# Altium schematic symbol library IR Discrete IGBT.SchLib: 141 symbols (part 2 of 3)
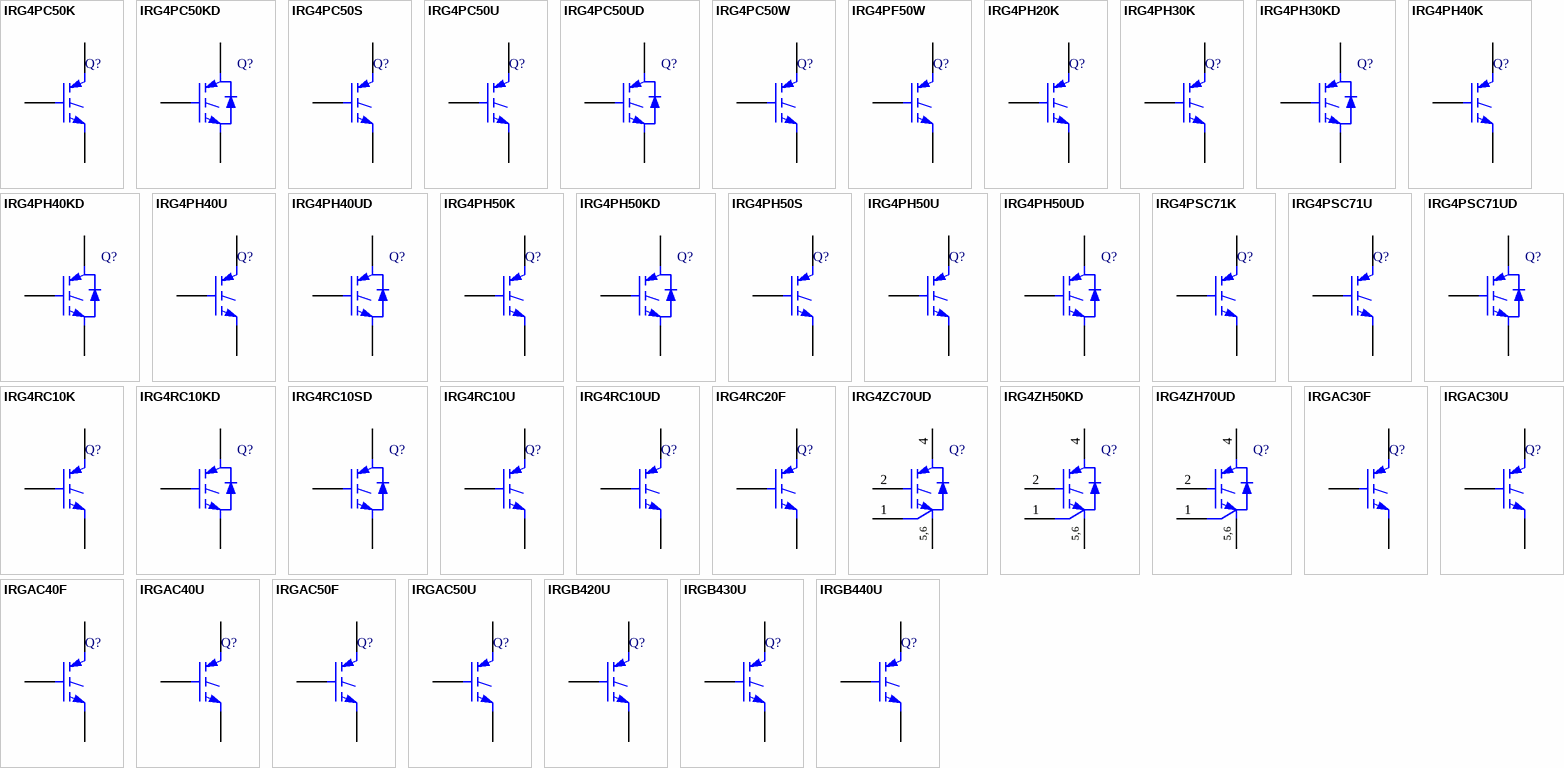
[diagram p4: symbols IRG4PC50K to IRGB440U]

## IRG4PC50S
designator Q?
Insulated Gate Bipolar Transistor; Note: Pin 2 (collector) is electrically connected to the BASE; Published: 8-Jun-2000; LatestRevisionDate: 17-Jul-2002; LatestRevisionNote: Re-released for DXP Platform.; DatasheetVersion: Mar-1997; PackageVersion: Aug-1997; PackageReference: TO-247AC; Publisher: Altium Limited; PackageDescription: SIP with Mounting Hole; 3 Leads; Body 20 x 15.6 x 5 mm (typ); Pitch 5.45 mm; Code_JEDEC: TO-247-AC; ComponentLink1Description: Manufacturer Link; ComponentLink1URL: http://www.irf.com/; ComponentLink2Description: Datasheet; ComponentLink2URL: http://www.irf.com/product-info/datasheets/data/irg4pc50s.pdf
footprint TO-247AC (SIP with Mounting Hole; 3 Leads; Body 20 x 15.6 x 5 mm (typ); Pitch 5.45 mm)
simulation model IRG4PC50S (SUBCKT)
pins: 1 G, 2 C, 3 E

## IRG4PC50U
designator Q?
Insulated Gate Bipolar Transistor; Published: 8-Jun-2000; LatestRevisionDate: 17-Jul-2002; LatestRevisionNote: Re-released for DXP Platform.; DatasheetVersion: Apr-1997; PackageVersion: Aug-1997; PackageReference: TO-247AC; Publisher: Altium Limited; PackageDescription: SIP with Mounting Hole; 3 Leads; Body 20 x 15.6 x 5 mm (typ); Pitch 5.45 mm; Code_JEDEC: TO-247-AC; ComponentLink1Description: Manufacturer Link; ComponentLink1URL: http://www.irf.com/; ComponentLink2Description: Datasheet; ComponentLink2URL: http://www.irf.com/product-info/datasheets/data/irg4pc50u.pdf
footprint TO-247AC (SIP with Mounting Hole; 3 Leads; Body 20 x 15.6 x 5 mm (typ); Pitch 5.45 mm)
simulation model IRG4PC50U (SUBCKT)
pins: 1 G, 2 C, 3 E

## IRG4PC50UD
designator Q?
Insulated Gate Bipolar Transistor with Ultrafast Soft Recovery Diode; Note: Pin 2 (collector) is electrically connected to the BASE; Published: 8-Jun-2000; LatestRevisionDate: 17-Jul-2002; LatestRevisionNote: Re-released for DXP Platform.; DatasheetVersion: Apr-1997; PackageVersion: Aug-1997; PackageReference: TO-247AC; Publisher: Altium Limited; PackageDescription: SIP with Mounting Hole; 3 Leads; Body 20 x 15.6 x 5 mm (typ); Pitch 5.45 mm; Code_JEDEC: TO-247-AC; ComponentLink1Description: Manufacturer Link; ComponentLink1URL: http://www.irf.com/; ComponentLink2Description: Datasheet; ComponentLink2URL: http://www.irf.com/product-info/datasheets/data/irg4pc50ud.pdf
footprint TO-247AC (SIP with Mounting Hole; 3 Leads; Body 20 x 15.6 x 5 mm (typ); Pitch 5.45 mm)
simulation model IRG4PC50UD (SUBCKT)
pins: 1 G, 2 C, 3 E

## IRG4PC50W
designator Q?
Insulated Gate Bipolar Transistor; Published: 8-Jun-2000; LatestRevisionDate: 17-Jul-2002; LatestRevisionNote: Re-released for DXP Platform.; DatasheetVersion: Aug-1997; PackageVersion: Aug-1997; PackageReference: TO-247AC; Publisher: Altium Limited; PackageDescription: SIP with Mounting Hole; 3 Leads; Body 20 x 15.6 x 5 mm (typ); Pitch 5.45 mm; Code_JEDEC: TO-247-AC; ComponentLink1Description: Manufacturer Link; ComponentLink1URL: http://www.irf.com/; ComponentLink2Description: Datasheet; ComponentLink2URL: http://www.irf.com/product-info/datasheets/data/irg4pc50w.pdf
footprint TO-247AC (SIP with Mounting Hole; 3 Leads; Body 20 x 15.6 x 5 mm (typ); Pitch 5.45 mm)
simulation model IRG4PC50W (SUBCKT)
pins: 1 G, 2 C, 3 E

## IRG4PF50W
designator Q?
Insulated Gate Bipolar Transistor; Note: Pin 4 is electrically connected to Pin 2; Published: 17-Sep-2003; DatasheetVersion: 15-Apr-1998; PackageVersion: Aug-1997; PackageReference: TO-247AC; Publisher: Altium Limited; PackageDescription: SIP with Mounting Hole; 3 Leads; Body 20 x 15.6 x 5 mm (typ); Pitch 5.45 mm; Code_JEDEC: TO-247-AC; ComponentLink1Description: Manufacturer Link; ComponentLink1URL: http://www.irf.com/; ComponentLink2Description: Datasheet; ComponentLink2URL: http://www.irf.com/product-info/datasheets/data/IRG4PF50W.pdf
footprint TO-247AC (SIP with Mounting Hole; 3 Leads; Body 20 x 15.6 x 5 mm (typ); Pitch 5.45 mm)
simulation model IRG4PF50W (SUBCKT)
pins: 1 G, 2 C, 3 E

## IRG4PH20K
designator Q?
Insulated Gate Bipolar Transistor; Note: Pin 4 is electrically connected to Pin 2; Published: 17-Sep-2003; DatasheetVersion: 25-Jun-1998; PackageVersion: Aug-1997; PackageReference: TO-247AC; Publisher: Altium Limited; PackageDescription: SIP with Mounting Hole; 3 Leads; Body 20 x 15.6 x 5 mm (typ); Pitch 5.45 mm; Code_JEDEC: TO-247-AC; ComponentLink1Description: Manufacturer Link; ComponentLink1URL: http://www.irf.com/; ComponentLink2Description: Datasheet; ComponentLink2URL: http://www.irf.com/product-info/datasheets/data/IRG4PH20K.pdf
footprint TO-247AC (SIP with Mounting Hole; 3 Leads; Body 20 x 15.6 x 5 mm (typ); Pitch 5.45 mm)
simulation model IRG4PH20K (SUBCKT)
pins: 1 G, 2 C, 3 E

## IRG4PH30K
designator Q?
Insulated Gate Bipolar Transistor; Published: 8-Jun-2000; LatestRevisionDate: 17-Jul-2002; LatestRevisionNote: Re-released for DXP Platform.; DatasheetVersion: Oct-1997; PackageVersion: Aug-1997; PackageReference: TO-247AC; Publisher: Altium Limited; PackageDescription: SIP with Mounting Hole; 3 Leads; Body 20 x 15.6 x 5 mm (typ); Pitch 5.45 mm; Code_JEDEC: TO-247-AC; ComponentLink1Description: Manufacturer Link; ComponentLink1URL: http://www.irf.com/; ComponentLink2Description: Datasheet; ComponentLink2URL: http://www.irf.com/product-info/datasheets/data/irg4ph30k.pdf
footprint TO-247AC (SIP with Mounting Hole; 3 Leads; Body 20 x 15.6 x 5 mm (typ); Pitch 5.45 mm)
pins: 1 G, 2 C, 3 E

## IRG4PH30KD
designator Q?
Insulated Gate Bipolar Transistor with Ultrafast Soft Recovery Diode; Published: 8-Jun-2000; LatestRevisionDate: 17-Jul-2002; LatestRevisionNote: Re-released for DXP Platform.; DatasheetVersion: Oct-1997; PackageVersion: Aug-1997; PackageReference: TO-247AC; Publisher: Altium Limited; PackageDescription: SIP with Mounting Hole; 3 Leads; Body 20 x 15.6 x 5 mm (typ); Pitch 5.45 mm; Code_JEDEC: TO-247-AC; ComponentLink1Description: Manufacturer Link; ComponentLink1URL: http://www.irf.com/; ComponentLink2Description: Datasheet; ComponentLink2URL: http://www.irf.com/product-info/datasheets/data/irg4ph30kd.pdf
footprint TO-247AC (SIP with Mounting Hole; 3 Leads; Body 20 x 15.6 x 5 mm (typ); Pitch 5.45 mm)
pins: 1 G, 2 C, 3 E

## IRG4PH40K
designator Q?
Insulated Gate Bipolar Transistor; Published: 8-Jun-2000; LatestRevisionDate: 17-Jul-2002; LatestRevisionNote: Re-released for DXP Platform.; DatasheetVersion: Sep-1997; PackageVersion: Aug-1997; PackageReference: TO-247AC; Publisher: Altium Limited; PackageDescription: SIP with Mounting Hole; 3 Leads; Body 20 x 15.6 x 5 mm (typ); Pitch 5.45 mm; Code_JEDEC: TO-247-AC; ComponentLink1Description: Manufacturer Link; ComponentLink1URL: http://www.irf.com/; ComponentLink2Description: Datasheet; ComponentLink2URL: http://www.irf.com/product-info/datasheets/data/irg4ph40k.pdf
footprint TO-247AC (SIP with Mounting Hole; 3 Leads; Body 20 x 15.6 x 5 mm (typ); Pitch 5.45 mm)
pins: 1 G, 2 C, 3 E

## IRG4PH40KD
designator Q?
Insulated Gate Bipolar Transistor with Ultrafast Soft Recovery Diode; Published: 8-Jun-2000; LatestRevisionDate: 17-Jul-2002; LatestRevisionNote: Re-released for DXP Platform.; DatasheetVersion: Sep-1997; PackageVersion: Aug-1997; PackageReference: TO-247AC; Publisher: Altium Limited; PackageDescription: SIP with Mounting Hole; 3 Leads; Body 20 x 15.6 x 5 mm (typ); Pitch 5.45 mm; Code_JEDEC: TO-247-AC; ComponentLink1Description: Manufacturer Link; ComponentLink1URL: http://www.irf.com/; ComponentLink2Description: Datasheet; ComponentLink2URL: http://www.irf.com/product-info/datasheets/data/irg4ph40kd.pdf
footprint TO-247AC (SIP with Mounting Hole; 3 Leads; Body 20 x 15.6 x 5 mm (typ); Pitch 5.45 mm)
pins: 1 G, 2 C, 3 E

## IRG4PH40U
designator Q?
Insulated Gate Bipolar Transistor; Published: 8-Jun-2000; LatestRevisionDate: 17-Jul-2002; LatestRevisionNote: Re-released for DXP Platform.; DatasheetVersion: Aug-1997; PackageVersion: Aug-1997; PackageReference: TO-247AC; Publisher: Altium Limited; PackageDescription: SIP with Mounting Hole; 3 Leads; Body 20 x 15.6 x 5 mm (typ); Pitch 5.45 mm; Code_JEDEC: TO-247-AC; ComponentLink1Description: Manufacturer Link; ComponentLink1URL: http://www.irf.com/; ComponentLink2Description: Datasheet; ComponentLink2URL: http://www.irf.com/product-info/datasheets/data/irg4ph40u.pdf
footprint TO-247AC (SIP with Mounting Hole; 3 Leads; Body 20 x 15.6 x 5 mm (typ); Pitch 5.45 mm)
pins: 1 G, 2 C, 3 E

## IRG4PH40UD
designator Q?
Insulated Gate Bipolar Transistor with Ultrafast Soft Recovery Diode; Note: Pin 2 (collector) is electrically connected to the BASE; Published: 8-Jun-2000; LatestRevisionDate: 17-Jul-2002; LatestRevisionNote: Re-released for DXP Platform.; DatasheetVersion: Aug-1997; PackageVersion: Aug-1997; PackageReference: TO-247AC; Publisher: Altium Limited; PackageDescription: SIP with Mounting Hole; 3 Leads; Body 20 x 15.6 x 5 mm (typ); Pitch 5.45 mm; Code_JEDEC: TO-247-AC; ComponentLink1Description: Manufacturer Link; ComponentLink1URL: http://www.irf.com/; ComponentLink2Description: Datasheet; ComponentLink2URL: http://www.irf.com/product-info/datasheets/data/irg4ph40ud.pdf
footprint TO-247AC (SIP with Mounting Hole; 3 Leads; Body 20 x 15.6 x 5 mm (typ); Pitch 5.45 mm)
pins: 1 G, 2 C, 3 E

## IRG4PH50K
designator Q?
Insulated Gate Bipolar Transistor; Published: 8-Jun-2000; LatestRevisionDate: 17-Jul-2002; LatestRevisionNote: Re-released for DXP Platform.; DatasheetVersion: PD-9.1576; PackageVersion: Aug-1997; PackageReference: TO-247AC; Publisher: Altium Limited; PackageDescription: SIP with Mounting Hole; 3 Leads; Body 20 x 15.6 x 5 mm (typ); Pitch 5.45 mm; Code_JEDEC: TO-247-AC; ComponentLink1Description: Manufacturer Link; ComponentLink1URL: http://www.irf.com/; ComponentLink2Description: Datasheet; ComponentLink2URL: http://www.irf.com/product-info/datasheets/data/irg4ph50k.pdf
footprint TO-247AC (SIP with Mounting Hole; 3 Leads; Body 20 x 15.6 x 5 mm (typ); Pitch 5.45 mm)
pins: 1 G, 2 C, 3 E

## IRG4PH50KD
designator Q?
Insulated Gate Bipolar Transistor with Ultrafast Soft Recovery Diode; Published: 8-Jun-2000; LatestRevisionDate: 17-Jul-2002; LatestRevisionNote: Re-released for DXP Platform.; DatasheetVersion: Apr-1998; PackageVersion: Aug-1997; PackageReference: TO-247AC; Publisher: Altium Limited; PackageDescription: SIP with Mounting Hole; 3 Leads; Body 20 x 15.6 x 5 mm (typ); Pitch 5.45 mm; Code_JEDEC: TO-247-AC; ComponentLink1Description: Manufacturer Link; ComponentLink1URL: http://www.irf.com/; ComponentLink2Description: Datasheet; ComponentLink2URL: http://www.irf.com/product-info/datasheets/data/irg4ph50kd.pdf
footprint TO-247AC (SIP with Mounting Hole; 3 Leads; Body 20 x 15.6 x 5 mm (typ); Pitch 5.45 mm)
pins: 1 G, 2 C, 3 E

## IRG4PH50S
designator Q?
Insulated Gate Bipolar Transistor; Note: Pin 2 (collector) is electrically connected to the BASE; Published: 8-Jun-2000; LatestRevisionDate: 17-Jul-2002; LatestRevisionNote: Re-released for DXP Platform.; DatasheetVersion: Dec-1997; PackageVersion: Aug-1997; PackageReference: TO-247AC; Publisher: Altium Limited; PackageDescription: SIP with Mounting Hole; 3 Leads; Body 20 x 15.6 x 5 mm (typ); Pitch 5.45 mm; Code_JEDEC: TO-247-AC; ComponentLink1Description: Manufacturer Link; ComponentLink1URL: http://www.irf.com/; ComponentLink2Description: Datasheet; ComponentLink2URL: http://www.irf.com/product-info/datasheets/data/irg4ph50s.pdf
footprint TO-247AC (SIP with Mounting Hole; 3 Leads; Body 20 x 15.6 x 5 mm (typ); Pitch 5.45 mm)
simulation model IRG4PH50S (SUBCKT)
pins: 1 G, 2 C, 3 E

## IRG4PH50U
designator Q?
Insulated Gate Bipolar Transistor; Published: 8-Jun-2000; LatestRevisionDate: 17-Jul-2002; LatestRevisionNote: Re-released for DXP Platform.; DatasheetVersion: Mar-1997; PackageVersion: Aug-1997; PackageReference: TO-247AC; Publisher: Altium Limited; PackageDescription: SIP with Mounting Hole; 3 Leads; Body 20 x 15.6 x 5 mm (typ); Pitch 5.45 mm; Code_JEDEC: TO-247-AC; ComponentLink1Description: Manufacturer Link; ComponentLink1URL: http://www.irf.com/; ComponentLink2Description: Datasheet; ComponentLink2URL: http://www.irf.com/product-info/datasheets/data/irg4ph50u.pdf
footprint TO-247AC (SIP with Mounting Hole; 3 Leads; Body 20 x 15.6 x 5 mm (typ); Pitch 5.45 mm)
simulation model IRG4PH50U (SUBCKT)
pins: 1 G, 2 C, 3 E

## IRG4PH50UD
designator Q?
Insulated Gate Bipolar Transistor with Ultrafast Soft Recovery Diode; Note: Pin 2 (collector) is electrically connected to the BASE; Published: 8-Jun-2000; LatestRevisionDate: 17-Jul-2002; LatestRevisionNote: Re-released for DXP Platform.; DatasheetVersion: Mar-1997; PackageVersion: Aug-1997; PackageReference: TO-247AC; Publisher: Altium Limited; PackageDescription: SIP with Mounting Hole; 3 Leads; Body 20 x 15.6 x 5 mm (typ); Pitch 5.45 mm; Code_JEDEC: TO-247-AC; ComponentLink1Description: Manufacturer Link; ComponentLink1URL: http://www.irf.com/; ComponentLink2Description: Datasheet; ComponentLink2URL: http://www.irf.com/product-info/datasheets/data/irg4ph50ud.pdf
footprint TO-247AC (SIP with Mounting Hole; 3 Leads; Body 20 x 15.6 x 5 mm (typ); Pitch 5.45 mm)
simulation model IRG4PH50UD (SUBCKT)
pins: 1 G, 2 C, 3 E

## IRG4PSC71K
designator Q?
Insulated Gate Bipolar Transistor; Published: 8-Jun-2000; LatestRevisionDate: 17-Jul-2002; LatestRevisionNote: Re-released for DXP Platform.; DatasheetVersion: May-1999; PackageReference: SUPER-247; Publisher: Altium Limited; PackageDescription: SIP; 3 Leads; Body 20.3 x 15.6 x 5 mm (typ); Pitch 5.45 mm; ComponentLink1Description: Manufacturer Link; ComponentLink1URL: http://www.irf.com/; ComponentLink2Description: Datasheet; ComponentLink2URL: http://www.irf.com/product-info/datasheets/data/irg4psc71k.pdf
footprint SUPER-247 (SIP; 3 Leads; Body 20.3 x 15.6 x 5 mm (typ); Pitch 5.45 mm)
simulation model IRG4PSC71K (SUBCKT)
pins: 1 G, 2 C, 3 E

## IRG4PSC71U
designator Q?
Insulated Gate Bipolar Transistor; Published: 8-Jun-2000; LatestRevisionDate: 17-Jul-2002; LatestRevisionNote: Re-released for DXP Platform.; DatasheetVersion: May-1999; PackageReference: SUPER-247; Publisher: Altium Limited; PackageDescription: SIP; 3 Leads; Body 20.3 x 15.6 x 5 mm (typ); Pitch 5.45 mm; ComponentLink1Description: Manufacturer Link; ComponentLink1URL: http://www.irf.com/; ComponentLink2Description: Datasheet; ComponentLink2URL: http://www.irf.com/product-info/datasheets/data/irg4psc71u.pdf
footprint SUPER-247 (SIP; 3 Leads; Body 20.3 x 15.6 x 5 mm (typ); Pitch 5.45 mm)
pins: 1 G, 2 C, 3 E

## IRG4PSC71UD
designator Q?
Insulated Gate Bipolar Transistor with Ultrafast Soft Recovery Diode; Published: 8-Jun-2000; LatestRevisionDate: 17-Jul-2002; LatestRevisionNote: Re-released for DXP Platform.; DatasheetVersion: May-1999; PackageReference: SUPER-247; Publisher: Altium Limited; PackageDescription: SIP; 3 Leads; Body 20.3 x 15.6 x 5 mm (typ); Pitch 5.45 mm; ComponentLink1Description: Manufacturer Link; ComponentLink1URL: http://www.irf.com/; ComponentLink2Description: Datasheet; ComponentLink2URL: http://www.irf.com/product-info/datasheets/data/irg4psc71ud.pdf
footprint SUPER-247 (SIP; 3 Leads; Body 20.3 x 15.6 x 5 mm (typ); Pitch 5.45 mm)
pins: 1 G, 2 C, 3 E

## IRG4RC10K
designator Q?
Insulated Gate Bipolar Transistor; Note: Pin 2 is trimmed and not drawn; Published: 17-Sep-2003; DatasheetVersion: 30-Dec-2000; PackageVersion: Feb-2003; PackageReference: TO-252AA; Publisher: Altium Limited; PackageDescription: D-PAK/TO-252-AA; 3 Leads (1 Cropped); Body 10.4 (inc. leads) x 6.7 mm (LxW max); Code_JEDEC: TO-252-AA; ComponentLink1Description: Manufacturer Link; ComponentLink1URL: http://www.irf.com/; ComponentLink2Description: Datasheet; ComponentLink2URL: http://www.irf.com/product-info/datasheets/data/irg4rc10k.pdf
footprint TO-252AA (D-PAK/TO-252-AA; 3 Leads (1 Cropped); Body 10.4 (inc. leads) x 6.7 mm (LxW max))
pins: 1 G, 3 E, 4 C

## IRG4RC10KD
designator Q?
Insulated Gate Bipolar Transistor with Ultrafast Soft Recovery Diode; Note: Pin 2 is trimmed and not drawn; Published: 17-Sep-2003; DatasheetVersion: 30-Dec-2000; PackageVersion: Feb-2003; PackageReference: TO-252AA; Publisher: Altium Limited; PackageDescription: D-PAK/TO-252-AA; 3 Leads (1 Cropped); Body 10.4 (inc. leads) x 6.7 mm (LxW max); Code_JEDEC: TO-252-AA; ComponentLink1Description: Manufacturer Link; ComponentLink1URL: http://www.irf.com/; ComponentLink2Description: Datasheet; ComponentLink2URL: http://www.irf.com/product-info/datasheets/data/irg4rc10kd.pdf
footprint TO-252AA (D-PAK/TO-252-AA; 3 Leads (1 Cropped); Body 10.4 (inc. leads) x 6.7 mm (LxW max))
pins: 1 G, 3 E, 4 C

## IRG4RC10SD
designator Q?
Insulated Gate Bipolar Transistor with Ultrafast Soft Recovery Diode; Note: Pin 2 is trimmed and not drawn; Published: 8-Jun-2000; LatestRevisionDate: 17-Jul-2002; LatestRevisionNote: Re-released for DXP Platform.; DatasheetVersion: Jul-1998; PackageVersion: Feb-2003; PackageReference: TO-252AA; Publisher: Altium Limited; PackageDescription: D-PAK/TO-252-AA; 3 Leads (1 Cropped); Body 10.4 (inc. leads) x 6.7 mm (LxW max); Code_JEDEC: TO-252-AA; ComponentLink1Description: Manufacturer Link; ComponentLink1URL: http://www.irf.com/; ComponentLink2Description: Datasheet; ComponentLink2URL: http://www.irf.com/product-info/datasheets/data/irg4rc10sd.pdf
footprint TO-252AA (D-PAK/TO-252-AA; 3 Leads (1 Cropped); Body 10.4 (inc. leads) x 6.7 mm (LxW max))
pins: 1 G, 3 E, 4 C

## IRG4RC10U
designator Q?
Insulated Gate Bipolar Transistor; Note: Pin 2 is trimmed and not drawn; Published: 8-Jun-2000; LatestRevisionDate: 17-Jul-2002; LatestRevisionNote: Re-released for DXP Platform.; DatasheetVersion: Aug-1999; PackageVersion: Feb-2003; PackageReference: TO-252AA; Publisher: Altium Limited; PackageDescription: D-PAK/TO-252-AA; 3 Leads (1 Cropped); Body 10.4 (inc. leads) x 6.7 mm (LxW max); Code_JEDEC: TO-252-AA; ComponentLink1Description: Manufacturer Link; ComponentLink1URL: http://www.irf.com/; ComponentLink2Description: Datasheet; ComponentLink2URL: http://www.irf.com/product-info/datasheets/data/irg4rc10u.pdf
footprint TO-252AA (D-PAK/TO-252-AA; 3 Leads (1 Cropped); Body 10.4 (inc. leads) x 6.7 mm (LxW max))
simulation model IRG4RC10U (SUBCKT)
pins: 1 G, 3 E, 4 C

## IRG4RC10UD
designator Q?
Insulated Gate Bipolar Transistor with Ultrafast Soft Recovery Diode; Note: Pin 2 is trimmed and not drawn; Published: 8-Jun-2000; LatestRevisionDate: 17-Jul-2002; LatestRevisionNote: Re-released for DXP Platform.; DatasheetVersion: Jun-1997; PackageVersion: Feb-2003; PackageReference: TO-252AA; Publisher: Altium Limited; PackageDescription: D-PAK/TO-252-AA; 3 Leads (1 Cropped); Body 10.4 (inc. leads) x 6.7 mm (LxW max); Code_JEDEC: TO-252-AA; ComponentLink1Description: Manufacturer Link; ComponentLink1URL: http://www.irf.com/; ComponentLink2Description: Datasheet; ComponentLink2URL: http://www.irf.com/product-info/datasheets/data/irg4rc10ud.pdf
footprint TO-252AA (D-PAK/TO-252-AA; 3 Leads (1 Cropped); Body 10.4 (inc. leads) x 6.7 mm (LxW max))
simulation model IRG4RC10UD (SUBCKT)
pins: 1 G, 3 E, 4 C

## IRG4RC20F
designator Q?
Insulated Gate Bipolar Transistor; Note: Pin 2 is trimmed and not drawn; Published: 17-Sep-2003; DatasheetVersion: 22-Feb-2001; PackageVersion: Feb-2003; PackageReference: TO-252AA; Publisher: Altium Limited; PackageDescription: D-PAK/TO-252-AA; 3 Leads (1 Cropped); Body 10.4 (inc. leads) x 6.7 mm (LxW max); Code_JEDEC: TO-252-AA; ComponentLink1Description: Manufacturer Link; ComponentLink1URL: http://www.irf.com/; ComponentLink2Description: Datasheet; ComponentLink2URL: http://www.irf.com/product-info/datasheets/data/IRG4RC20F.pdf
footprint TO-252AA (D-PAK/TO-252-AA; 3 Leads (1 Cropped); Body 10.4 (inc. leads) x 6.7 mm (LxW max))
pins: 1 G, 3 E, 4 C

## IRG4ZC70UD
designator Q?
Insulated Gate Bipolar Transistor with Ultrafast Soft Recovery Diode; Note: Pin 3 is not connected and not drawn; Published: 8-Jun-2000; LatestRevisionDate: 17-Jul-2002; LatestRevisionNote: Re-released for DXP Platform.; DatasheetVersion: Mar-1998; PackageVersion: Mar-1998; PackageReference: SMD-10; Publisher: Altium Limited; PackageDescription: SMD-10 Package; 6 Terminals; Body 29 x 14.2 x 4.27 mm (LxWxH); ComponentLink1Description: Manufacturer Link; ComponentLink1URL: http://www.irf.com/; ComponentLink2Description: Datasheet; ComponentLink2URL: http://www.irf.com/product-info/datasheets/data/irg4zc70ud.pdf
footprint SMD-10 (SMD-10 Package; 6 Terminals; Body 29 x 14.2 x 4.27 mm (LxWxH))
pins: 1 EK, 2 G, 4 C, 5 E, 6 E
text: 5,6

## IRG4ZH50KD
designator Q?
Insulated Gate Bipolar Transistor with Ultrafast Soft Recovery Diode; Note: Pin 3 is not connected and not drawn; Published: 8-Jun-2000; LatestRevisionDate: 17-Jul-2002; LatestRevisionNote: Re-released for DXP Platform.; DatasheetVersion: Mar-1998; PackageVersion: Mar-1998; PackageReference: SMD-10; Publisher: Altium Limited; PackageDescription: SMD-10 Package; 6 Terminals; Body 29 x 14.2 x 4.27 mm (LxWxH); ComponentLink1Description: Manufacturer Link; ComponentLink1URL: http://www.irf.com/; ComponentLink2Description: Datasheet; ComponentLink2URL: http://www.irf.com/product-info/datasheets/data/irg4zh50kd.pdf
footprint SMD-10 (SMD-10 Package; 6 Terminals; Body 29 x 14.2 x 4.27 mm (LxWxH))
pins: 1 EK, 2 G, 4 C, 5 E, 6 E
text: 5,6

## IRG4ZH70UD
designator Q?
Insulated Gate Bipolar Transistor with Ultrafast Soft Recovery Diode; Note: Pin 3 is not connected and not drawn; Published: 8-Jun-2000; LatestRevisionDate: 17-Jul-2002; LatestRevisionNote: Re-released for DXP Platform.; DatasheetVersion: Mar-1998; PackageVersion: Mar-1998; PackageReference: SMD-10; Publisher: Altium Limited; PackageDescription: SMD-10 Package; 6 Terminals; Body 29 x 14.2 x 4.27 mm (LxWxH); ComponentLink1Description: Manufacturer Link; ComponentLink1URL: http://www.irf.com/; ComponentLink2Description: Datasheet; ComponentLink2URL: http://www.irf.com/product-info/datasheets/data/irg4zh70ud.pdf
footprint SMD-10 (SMD-10 Package; 6 Terminals; Body 29 x 14.2 x 4.27 mm (LxWxH))
simulation model IRG4ZH70UD (SUBCKT)
pins: 1 EK, 2 G, 4 C, 5 E, 6 E
text: 5,6

## IRGAC30F
designator Q?
Insulated Gate Bipolar Transistor; Note: Terminal 3 (collector) is the CASE; Published: 8-Jun-2000; LatestRevisionDate: 17-Sep-2003; LatestRevisionNote: SIM Port Mapping Fixed.; DatasheetVersion: PD-9.721A; PackageReference: TO-204AE; Publisher: Altium Limited; PackageDescription: Oval Flange Mount with (2) Offset Leads; Pin Spacing 10.92 mm; Lead Dia. 1.57 mm (max); ComponentLink1Description: Manufacturer Link; ComponentLink1URL: http://www.irf.com/; ComponentLink2Description: Datasheet; ComponentLink2URL: http://www.irf.com/product-info/datasheets/data/IRGAC30F_C.pdf
footprint TO-204AE (Oval Flange Mount with (2) Offset Leads; Pin Spacing 10.92 mm; Lead Dia. 1.57 mm (max))
simulation model IRGAC30F (SUBCKT)
pins: 1 E, 2 G, 3 C

## IRGAC30U
designator Q?
Insulated Gate Bipolar Transistor; Note: Terminal 3 (collector) is the CASE; Published: 8-Jun-2000; LatestRevisionDate: 17-Sep-2003; LatestRevisionNote: SIM Port Mapping Fixed.; DatasheetVersion: PD-9.722A; PackageReference: TO-204AE; Publisher: Altium Limited; PackageDescription: Oval Flange Mount with (2) Offset Leads; Pin Spacing 10.92 mm; Lead Dia. 1.57 mm (max); ComponentLink1Description: Manufacturer Link; ComponentLink1URL: http://www.irf.com/; ComponentLink2Description: Datasheet; ComponentLink2URL: http://www.irf.com/product-info/datasheets/data/IRGAC30U_C.pdf
footprint TO-204AE (Oval Flange Mount with (2) Offset Leads; Pin Spacing 10.92 mm; Lead Dia. 1.57 mm (max))
simulation model IRGAC30U (SUBCKT)
pins: 1 E, 2 G, 3 C

## IRGAC40F
designator Q?
Insulated Gate Bipolar Transistor; Note: Terminal 3 (collector) is the CASE; Published: 8-Jun-2000; LatestRevisionDate: 17-Sep-2003; LatestRevisionNote: SIM Port Mapping Fixed.; DatasheetVersion: PD-9.723A; PackageReference: TO-204AE; Publisher: Altium Limited; PackageDescription: Oval Flange Mount with (2) Offset Leads; Pin Spacing 10.92 mm; Lead Dia. 1.57 mm (max); ComponentLink1Description: Manufacturer Link; ComponentLink1URL: http://www.irf.com/; ComponentLink2Description: Datasheet; ComponentLink2URL: http://www.irf.com/product-info/datasheets/data/IRGAC40F_C.pdf
footprint TO-204AE (Oval Flange Mount with (2) Offset Leads; Pin Spacing 10.92 mm; Lead Dia. 1.57 mm (max))
simulation model IRGAC40F (SUBCKT)
pins: 1 E, 2 G, 3 C

## IRGAC40U
designator Q?
Insulated Gate Bipolar Transistor; Note: Terminal 3 (collector) is the CASE; Published: 8-Jun-2000; LatestRevisionDate: 17-Sep-2003; LatestRevisionNote: SIM Port Mapping Fixed.; DatasheetVersion: PD-9.724A; PackageReference: TO-204AE; Publisher: Altium Limited; PackageDescription: Oval Flange Mount with (2) Offset Leads; Pin Spacing 10.92 mm; Lead Dia. 1.57 mm (max); ComponentLink1Description: Manufacturer Link; ComponentLink1URL: http://www.irf.com/; ComponentLink2Description: Datasheet; ComponentLink2URL: http://www.irf.com/product-info/datasheets/data/IRGAC40U_C.pdf
footprint TO-204AE (Oval Flange Mount with (2) Offset Leads; Pin Spacing 10.92 mm; Lead Dia. 1.57 mm (max))
simulation model IRGAC40U (SUBCKT)
pins: 1 E, 2 G, 3 C

## IRGAC50F
designator Q?
Insulated Gate Bipolar Transistor; Note: Terminal 3 (collector) is the CASE; Published: 8-Jun-2000; LatestRevisionDate: 17-Sep-2003; LatestRevisionNote: SIM Port Mapping Fixed.; DatasheetVersion: PD-9.725A; PackageReference: TO-204AE; Publisher: Altium Limited; PackageDescription: Oval Flange Mount with (2) Offset Leads; Pin Spacing 10.92 mm; Lead Dia. 1.57 mm (max); ComponentLink1Description: Manufacturer Link; ComponentLink1URL: http://www.irf.com/; ComponentLink2Description: Datasheet; ComponentLink2URL: http://www.irf.com/product-info/datasheets/data/IRGAC50F_C.pdf
footprint TO-204AE (Oval Flange Mount with (2) Offset Leads; Pin Spacing 10.92 mm; Lead Dia. 1.57 mm (max))
simulation model IRGAC50F (SUBCKT)
pins: 1 E, 2 G, 3 C

## IRGAC50U
designator Q?
Insulated Gate Bipolar Transistor; Note: Terminal 3 (collector) is the CASE; Published: 8-Jun-2000; LatestRevisionDate: 17-Sep-2003; LatestRevisionNote: SIM Port Mapping Fixed.; DatasheetVersion: PD-9.726A; PackageReference: TO-204AE; Publisher: Altium Limited; PackageDescription: Oval Flange Mount with (2) Offset Leads; Pin Spacing 10.92 mm; Lead Dia. 1.57 mm (max); ComponentLink1Description: Manufacturer Link; ComponentLink1URL: http://www.irf.com/; ComponentLink2Description: Datasheet; ComponentLink2URL: http://www.irf.com/product-info/datasheets/data/IRGAC50U_C.pdf
footprint TO-204AE (Oval Flange Mount with (2) Offset Leads; Pin Spacing 10.92 mm; Lead Dia. 1.57 mm (max))
simulation model IRGAC50U (SUBCKT)
pins: 1 E, 2 G, 3 C

## IRGB420U
designator Q?
Insulated Gate Bipolar Transistor; Note: Pin 2 (collector) is electrically connected to the TAB; Published: 8-Jun-2000; LatestRevisionDate: 17-Sep-2003; LatestRevisionNote: SIM Port Mapping Fixed.; DatasheetVersion: PD-9.784A; PackageVersion: Feb-1997; PackageReference: TO-220AB; Publisher: Altium Limited; PackageDescription: TO, Thru-Hole, Vertical, Heatsink Mounted; 3 In-Line Leads; Pitch 2.54 mm; ComponentLink1Description: Manufacturer Link; ComponentLink1URL: http://www.irf.com/
footprint TO-220AB (TO, Thru-Hole, Vertical, Heatsink Mounted; 3 In-Line Leads; Pitch 2.54 mm)
simulation model IRGB420U (SUBCKT)
pins: 1 G, 2 C, 3 E

## IRGB430U
designator Q?
Insulated Gate Bipolar Transistor; Note: Pin 2 (collector) is electrically connected to the TAB; Published: 8-Jun-2000; LatestRevisionDate: 17-Sep-2003; LatestRevisionNote: SIM Port Mapping Fixed.; DatasheetVersion: PD-9.783A; PackageVersion: Feb-1997; PackageReference: TO-220AB; Publisher: Altium Limited; PackageDescription: TO, Thru-Hole, Vertical, Heatsink Mounted; 3 In-Line Leads; Pitch 2.54 mm; ComponentLink1Description: Manufacturer Link; ComponentLink1URL: http://www.irf.com/
footprint TO-220AB (TO, Thru-Hole, Vertical, Heatsink Mounted; 3 In-Line Leads; Pitch 2.54 mm)
simulation model IRGB430U (SUBCKT)
pins: 1 G, 2 C, 3 E

## IRGB440U
designator Q?
Insulated Gate Bipolar Transistor; Note: Pin 2 (collector) is electrically connected to the TAB; Published: 8-Jun-2000; LatestRevisionDate: 17-Sep-2003; LatestRevisionNote: SIM Port Mapping Fixed.; DatasheetVersion: PD-9.782A; PackageVersion: Feb-1997; PackageReference: TO-220AB; Publisher: Altium Limited; PackageDescription: TO, Thru-Hole, Vertical, Heatsink Mounted; 3 In-Line Leads; Pitch 2.54 mm; ComponentLink1Description: Manufacturer Link; ComponentLink1URL: http://www.irf.com/
footprint TO-220AB (TO, Thru-Hole, Vertical, Heatsink Mounted; 3 In-Line Leads; Pitch 2.54 mm)
simulation model IRGB440U (SUBCKT)
pins: 1 G, 2 C, 3 E

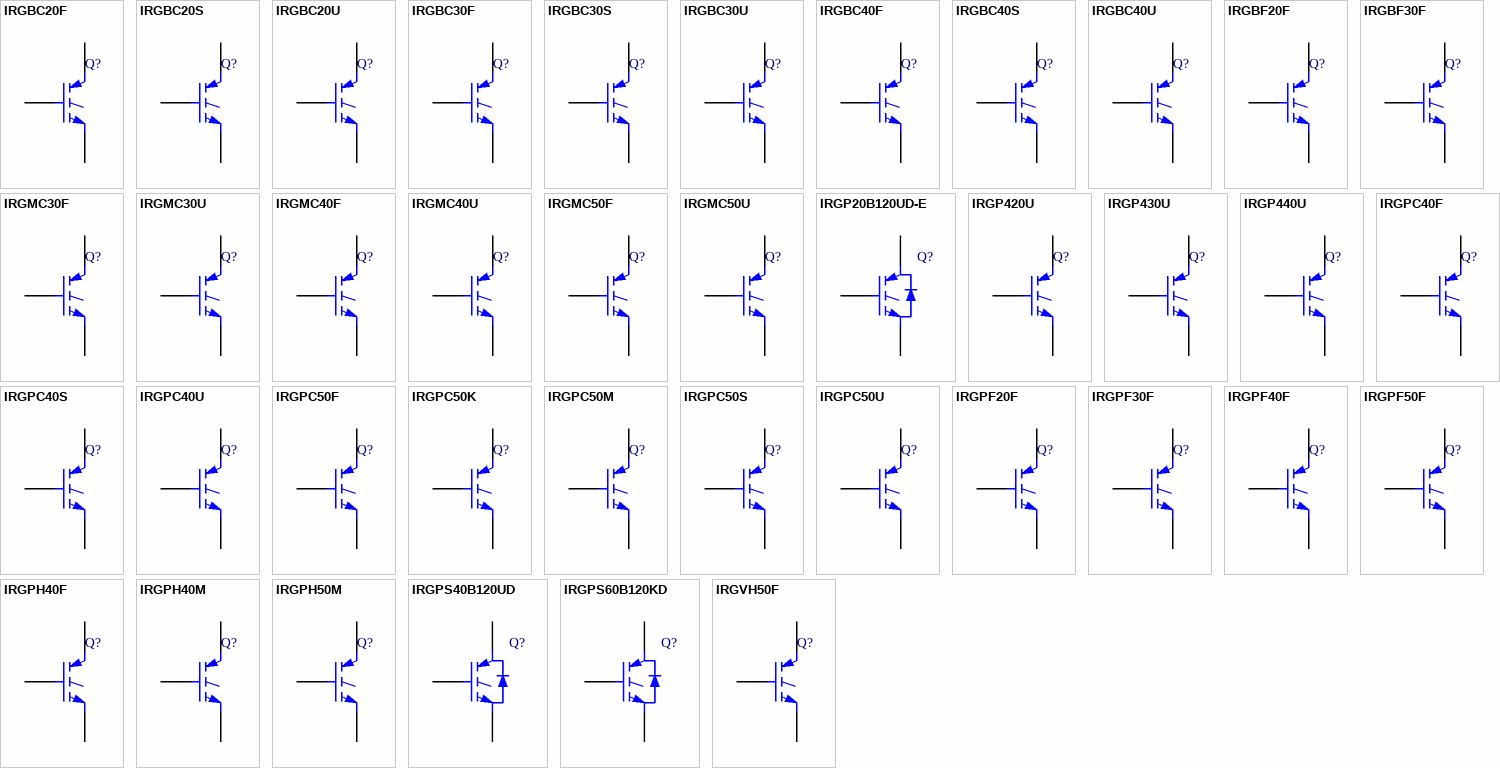
[diagram p3: symbols IRGBC20F to IRGVH50F]

## IRGBC20F
designator Q?
Insulated Gate Bipolar Transistor; Note: Pin 2 (collector) is electrically connected to the TAB; Published: 8-Jun-2000; LatestRevisionDate: 17-Sep-2003; LatestRevisionNote: SIM Port Mapping Fixed.; DatasheetVersion: PD-9.686A; PackageVersion: Feb-1997; PackageReference: TO-220AB; Publisher: Altium Limited; PackageDescription: TO, Thru-Hole, Vertical, Heatsink Mounted; 3 In-Line Leads; Pitch 2.54 mm; ComponentLink1Description: Manufacturer Link; ComponentLink1URL: http://www.irf.com/
footprint TO-220AB (TO, Thru-Hole, Vertical, Heatsink Mounted; 3 In-Line Leads; Pitch 2.54 mm)
simulation model IRGBC20F (SUBCKT)
pins: 1 G, 2 C, 3 E

## IRGBC20S
designator Q?
Insulated Gate Bipolar Transistor; Note: Pin 2 (collector) is electrically connected to the TAB; Published: 8-Jun-2000; LatestRevisionDate: 17-Sep-2003; LatestRevisionNote: SIM Port Mapping Fixed.; DatasheetVersion: PD-9.687A; PackageVersion: Feb-1997; PackageReference: TO-220AB; Publisher: Altium Limited; PackageDescription: TO, Thru-Hole, Vertical, Heatsink Mounted; 3 In-Line Leads; Pitch 2.54 mm; ComponentLink1Description: Manufacturer Link; ComponentLink1URL: http://www.irf.com/
footprint TO-220AB (TO, Thru-Hole, Vertical, Heatsink Mounted; 3 In-Line Leads; Pitch 2.54 mm)
simulation model IRGBC20S (SUBCKT)
pins: 1 G, 2 C, 3 E

## IRGBC20U
designator Q?
Insulated Gate Bipolar Transistor; Note: Pin 2 (collector) is electrically connected to the TAB; Published: 8-Jun-2000; LatestRevisionDate: 17-Sep-2003; LatestRevisionNote: SIM Port Mapping Fixed.; DatasheetVersion: PD-9.681A; PackageVersion: Feb-1997; PackageReference: TO-220AB; Publisher: Altium Limited; PackageDescription: TO, Thru-Hole, Vertical, Heatsink Mounted; 3 In-Line Leads; Pitch 2.54 mm; ComponentLink1Description: Manufacturer Link; ComponentLink1URL: http://www.irf.com/
footprint TO-220AB (TO, Thru-Hole, Vertical, Heatsink Mounted; 3 In-Line Leads; Pitch 2.54 mm)
simulation model IRGBC20U (SUBCKT)
pins: 1 G, 2 C, 3 E

## IRGBC30F
designator Q?
Insulated Gate Bipolar Transistor; Note: Pin 2 (collector) is electrically connected to the TAB; Published: 8-Jun-2000; LatestRevisionDate: 17-Sep-2003; LatestRevisionNote: SIM Port Mapping Fixed.; DatasheetVersion: PD-9.689A; PackageVersion: Feb-1997; PackageReference: TO-220AB; Publisher: Altium Limited; PackageDescription: TO, Thru-Hole, Vertical, Heatsink Mounted; 3 In-Line Leads; Pitch 2.54 mm; ComponentLink1Description: Manufacturer Link; ComponentLink1URL: http://www.irf.com/
footprint TO-220AB (TO, Thru-Hole, Vertical, Heatsink Mounted; 3 In-Line Leads; Pitch 2.54 mm)
simulation model IRGBC30F (SUBCKT)
pins: 1 G, 2 C, 3 E

## IRGBC30S
designator Q?
Insulated Gate Bipolar Transistor; Note: Pin 2 (collector) is electrically connected to the TAB; Published: 8-Jun-2000; LatestRevisionDate: 17-Sep-2003; LatestRevisionNote: SIM Port Mapping Fixed.; DatasheetVersion: PD-9.688A; PackageVersion: Feb-1997; PackageReference: TO-220AB; Publisher: Altium Limited; PackageDescription: TO, Thru-Hole, Vertical, Heatsink Mounted; 3 In-Line Leads; Pitch 2.54 mm; ComponentLink1Description: Manufacturer Link; ComponentLink1URL: http://www.irf.com/
footprint TO-220AB (TO, Thru-Hole, Vertical, Heatsink Mounted; 3 In-Line Leads; Pitch 2.54 mm)
simulation model IRGBC30S (SUBCKT)
pins: 1 G, 2 C, 3 E

## IRGBC30U
designator Q?
Insulated Gate Bipolar Transistor; Note: Pin 2 (collector) is electrically connected to the TAB; Published: 8-Jun-2000; LatestRevisionDate: 17-Sep-2003; LatestRevisionNote: SIM Port Mapping Fixed.; DatasheetVersion: PD-9.682A; PackageVersion: Feb-1997; PackageReference: TO-220AB; Publisher: Altium Limited; PackageDescription: TO, Thru-Hole, Vertical, Heatsink Mounted; 3 In-Line Leads; Pitch 2.54 mm; ComponentLink1Description: Manufacturer Link; ComponentLink1URL: http://www.irf.com/
footprint TO-220AB (TO, Thru-Hole, Vertical, Heatsink Mounted; 3 In-Line Leads; Pitch 2.54 mm)
simulation model IRGBC30U (SUBCKT)
pins: 1 G, 2 C, 3 E

## IRGBC40F
designator Q?
Insulated Gate Bipolar Transistor; Note: Pin 2 (collector) is electrically connected to the TAB; Published: 8-Jun-2000; LatestRevisionDate: 17-Sep-2003; LatestRevisionNote: SIM Port Mapping Fixed.; DatasheetVersion: PD-9.691A; PackageVersion: Feb-1997; PackageReference: TO-220AB; Publisher: Altium Limited; PackageDescription: TO, Thru-Hole, Vertical, Heatsink Mounted; 3 In-Line Leads; Pitch 2.54 mm; ComponentLink1Description: Manufacturer Link; ComponentLink1URL: http://www.irf.com/
footprint TO-220AB (TO, Thru-Hole, Vertical, Heatsink Mounted; 3 In-Line Leads; Pitch 2.54 mm)
simulation model IRGBC40F (SUBCKT)
pins: 1 G, 2 C, 3 E

## IRGBC40S
designator Q?
Insulated Gate Bipolar Transistor; Note: Pin 2 (collector) is electrically connected to the TAB; Published: 8-Jun-2000; LatestRevisionDate: 17-Sep-2003; LatestRevisionNote: SIM Port Mapping Fixed.; DatasheetVersion: PD-9.690A; PackageVersion: Feb-1997; PackageReference: TO-220AB; Publisher: Altium Limited; PackageDescription: TO, Thru-Hole, Vertical, Heatsink Mounted; 3 In-Line Leads; Pitch 2.54 mm; ComponentLink1Description: Manufacturer Link; ComponentLink1URL: http://www.irf.com/
footprint TO-220AB (TO, Thru-Hole, Vertical, Heatsink Mounted; 3 In-Line Leads; Pitch 2.54 mm)
simulation model IRGBC40S (SUBCKT)
pins: 1 G, 2 C, 3 E

## IRGBC40U
designator Q?
Insulated Gate Bipolar Transistor; Note: Pin 2 (collector) is electrically connected to the TAB; Published: 8-Jun-2000; LatestRevisionDate: 17-Sep-2003; LatestRevisionNote: SIM Port Mapping Fixed.; DatasheetVersion: PD-9.683A; PackageVersion: Feb-1997; PackageReference: TO-220AB; Publisher: Altium Limited; PackageDescription: TO, Thru-Hole, Vertical, Heatsink Mounted; 3 In-Line Leads; Pitch 2.54 mm; ComponentLink1Description: Manufacturer Link; ComponentLink1URL: http://www.irf.com/
footprint TO-220AB (TO, Thru-Hole, Vertical, Heatsink Mounted; 3 In-Line Leads; Pitch 2.54 mm)
simulation model IRGBC40U (SUBCKT)
pins: 1 G, 2 C, 3 E

## IRGBF20F
designator Q?
Insulated Gate Bipolar Transistor; Note: Pin 2 (collector) is electrically connected to the TAB; Published: 8-Jun-2000; LatestRevisionDate: 17-Sep-2003; LatestRevisionNote: SIM Port Mapping Fixed.; DatasheetVersion: PD-9.776A; PackageVersion: Feb-1997; PackageReference: TO-220AB; Publisher: Altium Limited; PackageDescription: TO, Thru-Hole, Vertical, Heatsink Mounted; 3 In-Line Leads; Pitch 2.54 mm; ComponentLink1Description: Manufacturer Link; ComponentLink1URL: http://www.irf.com/
footprint TO-220AB (TO, Thru-Hole, Vertical, Heatsink Mounted; 3 In-Line Leads; Pitch 2.54 mm)
simulation model IRGBF20F (SUBCKT)
pins: 1 G, 2 C, 3 E

## IRGBF30F
designator Q?
Insulated Gate Bipolar Transistor; Note: Pin 2 (collector) is electrically connected to the TAB; Published: 8-Jun-2000; LatestRevisionDate: 17-Sep-2003; LatestRevisionNote: SIM Port Mapping Fixed.; DatasheetVersion: PD-9.773; PackageVersion: Feb-1997; PackageReference: TO-220AB; Publisher: Altium Limited; PackageDescription: TO, Thru-Hole, Vertical, Heatsink Mounted; 3 In-Line Leads; Pitch 2.54 mm; ComponentLink1Description: Manufacturer Link; ComponentLink1URL: http://www.irf.com/
footprint TO-220AB (TO, Thru-Hole, Vertical, Heatsink Mounted; 3 In-Line Leads; Pitch 2.54 mm)
simulation model IRGBF30F (SUBCKT)
pins: 1 G, 2 C, 3 E

## IRGMC30F
designator Q?
Insulated Gate Bipolar Transistor; Published: 8-Jun-2000; LatestRevisionDate: 17-Jul-2002; LatestRevisionNote: Re-released for DXP Platform.; DatasheetVersion: PD-9.714A; PackageReference: TO-254AA; Publisher: Altium Limited; PackageDescription: TO, Thru-Hole, Vertical, Heatsink Mounted; 3 In-Line Leads; Pitch 3.81 mm; Code_JEDEC: TO-254-AA; ComponentLink1Description: Manufacturer Link; ComponentLink1URL: http://www.irf.com/; ComponentLink2Description: Datasheet; ComponentLink2URL: http://www.irf.com/product-info/datasheets/data/irgmc30f.pdf
footprint TO-254AA (TO, Thru-Hole, Vertical, Heatsink Mounted; 3 In-Line Leads; Pitch 3.81 mm)
simulation model IRGMC30F (SUBCKT)
pins: 1 C, 2 E, 3 G

## IRGMC30U
designator Q?
Insulated Gate Bipolar Transistor; Published: 8-Jun-2000; LatestRevisionDate: 17-Jul-2002; LatestRevisionNote: Re-released for DXP Platform.; DatasheetVersion: PD-9.715A; PackageReference: TO-254AA; Publisher: Altium Limited; PackageDescription: TO, Thru-Hole, Vertical, Heatsink Mounted; 3 In-Line Leads; Pitch 3.81 mm; Code_JEDEC: TO-254-AA; ComponentLink1Description: Manufacturer Link; ComponentLink1URL: http://www.irf.com/; ComponentLink2Description: Datasheet; ComponentLink2URL: http://www.irf.com/product-info/datasheets/data/irgmc30u.pdf
footprint TO-254AA (TO, Thru-Hole, Vertical, Heatsink Mounted; 3 In-Line Leads; Pitch 3.81 mm)
simulation model IRGMC30U (SUBCKT)
pins: 1 C, 2 E, 3 G

## IRGMC40F
designator Q?
Insulated Gate Bipolar Transistor; Published: 8-Jun-2000; LatestRevisionDate: 17-Jul-2002; LatestRevisionNote: Re-released for DXP Platform.; DatasheetVersion: PD-9.716A; PackageReference: TO-254AA; Publisher: Altium Limited; PackageDescription: TO, Thru-Hole, Vertical, Heatsink Mounted; 3 In-Line Leads; Pitch 3.81 mm; Code_JEDEC: TO-254-AA; ComponentLink1Description: Manufacturer Link; ComponentLink1URL: http://www.irf.com/; ComponentLink2Description: Datasheet; ComponentLink2URL: http://www.irf.com/product-info/datasheets/data/irgmc40f.pdf
footprint TO-254AA (TO, Thru-Hole, Vertical, Heatsink Mounted; 3 In-Line Leads; Pitch 3.81 mm)
simulation model IRGMC40F (SUBCKT)
pins: 1 C, 2 E, 3 G

## IRGMC40U
designator Q?
Insulated Gate Bipolar Transistor; Published: 8-Jun-2000; LatestRevisionDate: 17-Jul-2002; LatestRevisionNote: Re-released for DXP Platform.; DatasheetVersion: PD-9.717A; PackageReference: TO-254AA; Publisher: Altium Limited; PackageDescription: TO, Thru-Hole, Vertical, Heatsink Mounted; 3 In-Line Leads; Pitch 3.81 mm; Code_JEDEC: TO-254-AA; ComponentLink1Description: Manufacturer Link; ComponentLink1URL: http://www.irf.com/; ComponentLink2Description: Datasheet; ComponentLink2URL: http://www.irf.com/product-info/datasheets/data/irgmc40u.pdf
footprint TO-254AA (TO, Thru-Hole, Vertical, Heatsink Mounted; 3 In-Line Leads; Pitch 3.81 mm)
simulation model IRGMC40U (SUBCKT)
pins: 1 C, 2 E, 3 G

## IRGMC50F
designator Q?
Insulated Gate Bipolar Transistor; Published: 8-Jun-2000; LatestRevisionDate: 17-Jul-2002; LatestRevisionNote: Re-released for DXP Platform.; DatasheetVersion: PD-9.718A; PackageReference: TO-254AA; Publisher: Altium Limited; PackageDescription: TO, Thru-Hole, Vertical, Heatsink Mounted; 3 In-Line Leads; Pitch 3.81 mm; Code_JEDEC: TO-254-AA; ComponentLink1Description: Manufacturer Link; ComponentLink1URL: http://www.irf.com/; ComponentLink2Description: Datasheet; ComponentLink2URL: http://www.irf.com/product-info/datasheets/data/irgmc50f.pdf
footprint TO-254AA (TO, Thru-Hole, Vertical, Heatsink Mounted; 3 In-Line Leads; Pitch 3.81 mm)
simulation model IRGMC50F (SUBCKT)
pins: 1 C, 2 E, 3 G

## IRGMC50U
designator Q?
Insulated Gate Bipolar Transistor; Published: 8-Jun-2000; LatestRevisionDate: 17-Jul-2002; LatestRevisionNote: Re-released for DXP Platform.; DatasheetVersion: PD-9.719A; PackageReference: TO-254AA; Publisher: Altium Limited; PackageDescription: TO, Thru-Hole, Vertical, Heatsink Mounted; 3 In-Line Leads; Pitch 3.81 mm; Code_JEDEC: TO-254-AA; ComponentLink1Description: Manufacturer Link; ComponentLink1URL: http://www.irf.com/; ComponentLink2Description: Datasheet; ComponentLink2URL: http://www.irf.com/product-info/datasheets/data/irgmc50u.pdf
footprint TO-254AA (TO, Thru-Hole, Vertical, Heatsink Mounted; 3 In-Line Leads; Pitch 3.81 mm)
simulation model IRGMC50U (SUBCKT)
pins: 1 C, 2 E, 3 G

## IRGP20B120UD-E
designator Q?
Insulated Gate Bipolar Transistor with Ultrafast Soft Recovery Diode; Note: Pin 4 is electrically connected to Pin 2; Published: 17-Sep-2003; DatasheetVersion: 14-Dec-1999; PackageVersion: Dec-1999; PackageReference: TO-247AD; Publisher: Altium Limited; PackageDescription: SIP with Mounting Hole; 3 Leads; Pitch 5.5 mm; ComponentLink1Description: Manufacturer Link; ComponentLink1URL: http://www.irf.com/; ComponentLink2Description: Datasheet; ComponentLink2URL: http://www.irf.com/product-info/datasheets/data/IRGP20B120UD-E.pdf
footprint TO-247AD (SIP with Mounting Hole; 3 Leads; Pitch 5.5 mm)
simulation model IRGP20B120UD-E (SUBCKT)
pins: 1 G, 2 C, 3 E

## IRGP420U
designator Q?
Insulated Gate Bipolar Transistor; Note: Pin 2 (collector) is electrically connected to the BASE; Published: 8-Jun-2000; LatestRevisionDate: 17-Sep-2003; LatestRevisionNote: SIM Port Mapping Fixed.; DatasheetVersion: PD-9.781A; PackageVersion: Aug-1997; PackageReference: TO-247AC; Publisher: Altium Limited; PackageDescription: SIP with Mounting Hole; 3 Leads; Body 20 x 15.6 x 5 mm (typ); Pitch 5.45 mm; Code_JEDEC: TO-247-AC; ComponentLink1Description: Manufacturer Link; ComponentLink1URL: http://www.irf.com/
footprint TO-247AC (SIP with Mounting Hole; 3 Leads; Body 20 x 15.6 x 5 mm (typ); Pitch 5.45 mm)
simulation model IRGP420U (SUBCKT)
pins: 1 G, 2 C, 3 E

## IRGP430U
designator Q?
Insulated Gate Bipolar Transistor; Note: Pin 2 (collector) is electrically connected to the BASE; Published: 8-Jun-2000; LatestRevisionDate: 17-Sep-2003; LatestRevisionNote: SIM Port Mapping Fixed.; DatasheetVersion: PD-9.780A; PackageVersion: Aug-1997; PackageReference: TO-247AC; Publisher: Altium Limited; PackageDescription: SIP with Mounting Hole; 3 Leads; Body 20 x 15.6 x 5 mm (typ); Pitch 5.45 mm; Code_JEDEC: TO-247-AC; ComponentLink1Description: Manufacturer Link; ComponentLink1URL: http://www.irf.com/
footprint TO-247AC (SIP with Mounting Hole; 3 Leads; Body 20 x 15.6 x 5 mm (typ); Pitch 5.45 mm)
simulation model IRGP430U (SUBCKT)
pins: 1 G, 2 C, 3 E

## IRGP440U
designator Q?
Insulated Gate Bipolar Transistor; Note: Pin 2 (collector) is electrically connected to the BASE; Published: 8-Jun-2000; LatestRevisionDate: 17-Sep-2003; LatestRevisionNote: SIM Port Mapping Fixed.; DatasheetVersion: PD-9.779; PackageVersion: Aug-1997; PackageReference: TO-247AC; Publisher: Altium Limited; PackageDescription: SIP with Mounting Hole; 3 Leads; Body 20 x 15.6 x 5 mm (typ); Pitch 5.45 mm; Code_JEDEC: TO-247-AC; ComponentLink1Description: Manufacturer Link; ComponentLink1URL: http://www.irf.com/
footprint TO-247AC (SIP with Mounting Hole; 3 Leads; Body 20 x 15.6 x 5 mm (typ); Pitch 5.45 mm)
simulation model IRGP440U (SUBCKT)
pins: 1 G, 2 C, 3 E

## IRGPC40F
designator Q?
Insulated Gate Bipolar Transistor; Note: Pin 2 (collector) is electrically connected to the BASE; Published: 8-Jun-2000; LatestRevisionDate: 17-Sep-2003; LatestRevisionNote: SIM Port Mapping Fixed.; DatasheetVersion: PD-9.693A; PackageVersion: Aug-1997; PackageReference: TO-247AC; Publisher: Altium Limited; PackageDescription: SIP with Mounting Hole; 3 Leads; Body 20 x 15.6 x 5 mm (typ); Pitch 5.45 mm; Code_JEDEC: TO-247-AC; ComponentLink1Description: Manufacturer Link; ComponentLink1URL: http://www.irf.com/
footprint TO-247AC (SIP with Mounting Hole; 3 Leads; Body 20 x 15.6 x 5 mm (typ); Pitch 5.45 mm)
simulation model IRGPC40F (SUBCKT)
pins: 1 G, 2 C, 3 E

## IRGPC40S
designator Q?
Insulated Gate Bipolar Transistor; Note: Pin 2 (collector) is electrically connected to the BASE; Published: 8-Jun-2000; LatestRevisionDate: 17-Sep-2003; LatestRevisionNote: SIM Port Mapping Fixed.; DatasheetVersion: PD-9.692A; PackageVersion: Aug-1997; PackageReference: TO-247AC; Publisher: Altium Limited; PackageDescription: SIP with Mounting Hole; 3 Leads; Body 20 x 15.6 x 5 mm (typ); Pitch 5.45 mm; Code_JEDEC: TO-247-AC; ComponentLink1Description: Manufacturer Link; ComponentLink1URL: http://www.irf.com/
footprint TO-247AC (SIP with Mounting Hole; 3 Leads; Body 20 x 15.6 x 5 mm (typ); Pitch 5.45 mm)
simulation model IRGPC40S (SUBCKT)
pins: 1 G, 2 C, 3 E

## IRGPC40U
designator Q?
Insulated Gate Bipolar Transistor; Note: Pin 2 (collector) is electrically connected to the BASE; Published: 8-Jun-2000; LatestRevisionDate: 17-Sep-2003; LatestRevisionNote: SIM Port Mapping Fixed.; DatasheetVersion: PD-9.684A; PackageVersion: Aug-1997; PackageReference: TO-247AC; Publisher: Altium Limited; PackageDescription: SIP with Mounting Hole; 3 Leads; Body 20 x 15.6 x 5 mm (typ); Pitch 5.45 mm; Code_JEDEC: TO-247-AC; ComponentLink1Description: Manufacturer Link; ComponentLink1URL: http://www.irf.com/
footprint TO-247AC (SIP with Mounting Hole; 3 Leads; Body 20 x 15.6 x 5 mm (typ); Pitch 5.45 mm)
simulation model IRGPC40U (SUBCKT)
pins: 1 G, 2 C, 3 E

## IRGPC50F
designator Q?
Insulated Gate Bipolar Transistor; Note: Pin 2 (collector) is electrically connected to the BASE; Published: 8-Jun-2000; LatestRevisionDate: 17-Sep-2003; LatestRevisionNote: SIM Port Mapping Fixed.; DatasheetVersion: PD-9.695A; PackageVersion: Aug-1997; PackageReference: TO-247AC; Publisher: Altium Limited; PackageDescription: SIP with Mounting Hole; 3 Leads; Body 20 x 15.6 x 5 mm (typ); Pitch 5.45 mm; Code_JEDEC: TO-247-AC; ComponentLink1Description: Manufacturer Link; ComponentLink1URL: http://www.irf.com/
footprint TO-247AC (SIP with Mounting Hole; 3 Leads; Body 20 x 15.6 x 5 mm (typ); Pitch 5.45 mm)
simulation model IRGPC50F (SUBCKT)
pins: 1 G, 2 C, 3 E

## IRGPC50K
designator Q?
Insulated Gate Bipolar Transistor; Note: Pin 2 (collector) is electrically connected to the BASE; Published: 8-Jun-2000; LatestRevisionDate: 17-Sep-2003; LatestRevisionNote: SIM Port Mapping Fixed.; DatasheetVersion: PD-9.1034; PackageVersion: Aug-1997; PackageReference: TO-247AC; Publisher: Altium Limited; PackageDescription: SIP with Mounting Hole; 3 Leads; Body 20 x 15.6 x 5 mm (typ); Pitch 5.45 mm; Code_JEDEC: TO-247-AC; ComponentLink1Description: Manufacturer Link; ComponentLink1URL: http://www.irf.com/
footprint TO-247AC (SIP with Mounting Hole; 3 Leads; Body 20 x 15.6 x 5 mm (typ); Pitch 5.45 mm)
simulation model IRGPC50K (SUBCKT)
pins: 1 G, 2 C, 3 E

## IRGPC50M
designator Q?
Insulated Gate Bipolar Transistor; Note: Pin 2 (collector) is electrically connected to the BASE; Published: 8-Jun-2000; LatestRevisionDate: 17-Sep-2003; LatestRevisionNote: SIM Port Mapping Fixed.; DatasheetVersion: PD-9.1024; PackageVersion: Aug-1997; PackageReference: TO-247AC; Publisher: Altium Limited; PackageDescription: SIP with Mounting Hole; 3 Leads; Body 20 x 15.6 x 5 mm (typ); Pitch 5.45 mm; Code_JEDEC: TO-247-AC; ComponentLink1Description: Manufacturer Link; ComponentLink1URL: http://www.irf.com/
footprint TO-247AC (SIP with Mounting Hole; 3 Leads; Body 20 x 15.6 x 5 mm (typ); Pitch 5.45 mm)
simulation model IRGPC50M (SUBCKT)
pins: 1 G, 2 C, 3 E

## IRGPC50S
designator Q?
Insulated Gate Bipolar Transistor; Note: Pin 2 (collector) is electrically connected to the BASE; Published: 8-Jun-2000; LatestRevisionDate: 17-Sep-2003; LatestRevisionNote: SIM Port Mapping Fixed.; DatasheetVersion: PD-9.694A; PackageVersion: Aug-1997; PackageReference: TO-247AC; Publisher: Altium Limited; PackageDescription: SIP with Mounting Hole; 3 Leads; Body 20 x 15.6 x 5 mm (typ); Pitch 5.45 mm; Code_JEDEC: TO-247-AC; ComponentLink1Description: Manufacturer Link; ComponentLink1URL: http://www.irf.com/
footprint TO-247AC (SIP with Mounting Hole; 3 Leads; Body 20 x 15.6 x 5 mm (typ); Pitch 5.45 mm)
simulation model IRGPC50S (SUBCKT)
pins: 1 G, 2 C, 3 E

## IRGPC50U
designator Q?
Insulated Gate Bipolar Transistor; Note: Pin 2 (collector) is electrically connected to the BASE; Published: 8-Jun-2000; LatestRevisionDate: 17-Sep-2003; LatestRevisionNote: SIM Port Mapping Fixed.; DatasheetVersion: PD-9.685A; PackageVersion: Aug-1997; PackageReference: TO-247AC; Publisher: Altium Limited; PackageDescription: SIP with Mounting Hole; 3 Leads; Body 20 x 15.6 x 5 mm (typ); Pitch 5.45 mm; Code_JEDEC: TO-247-AC; ComponentLink1Description: Manufacturer Link; ComponentLink1URL: http://www.irf.com/
footprint TO-247AC (SIP with Mounting Hole; 3 Leads; Body 20 x 15.6 x 5 mm (typ); Pitch 5.45 mm)
simulation model IRGPC50U (SUBCKT)
pins: 1 G, 2 C, 3 E

## IRGPF20F
designator Q?
Insulated Gate Bipolar Transistor; Note: Pin 2 (collector) is electrically connected to the BASE; Published: 8-Jun-2000; LatestRevisionDate: 17-Sep-2003; LatestRevisionNote: SIM Port Mapping Fixed.; DatasheetVersion: PD-9.1025; PackageVersion: Aug-1997; PackageReference: TO-247AC; Publisher: Altium Limited; PackageDescription: SIP with Mounting Hole; 3 Leads; Body 20 x 15.6 x 5 mm (typ); Pitch 5.45 mm; Code_JEDEC: TO-247-AC; ComponentLink1Description: Manufacturer Link; ComponentLink1URL: http://www.irf.com/
footprint TO-247AC (SIP with Mounting Hole; 3 Leads; Body 20 x 15.6 x 5 mm (typ); Pitch 5.45 mm)
simulation model IRGPF20F (SUBCKT)
pins: 1 G, 2 C, 3 E

## IRGPF30F
designator Q?
Insulated Gate Bipolar Transistor; Note: Pin 2 (collector) is electrically connected to the BASE; Published: 8-Jun-2000; LatestRevisionDate: 17-Sep-2003; LatestRevisionNote: SIM Port Mapping Fixed.; DatasheetVersion: PD-9.1026; PackageVersion: Aug-1997; PackageReference: TO-247AC; Publisher: Altium Limited; PackageDescription: SIP with Mounting Hole; 3 Leads; Body 20 x 15.6 x 5 mm (typ); Pitch 5.45 mm; Code_JEDEC: TO-247-AC; ComponentLink1Description: Manufacturer Link; ComponentLink1URL: http://www.irf.com/
footprint TO-247AC (SIP with Mounting Hole; 3 Leads; Body 20 x 15.6 x 5 mm (typ); Pitch 5.45 mm)
simulation model IRGPF30F (SUBCKT)
pins: 1 G, 2 C, 3 E